# Altium schematic symbol library kmilo17pet-NSC_LDO.SchLib: 2675 symbols (part 21 of 65)
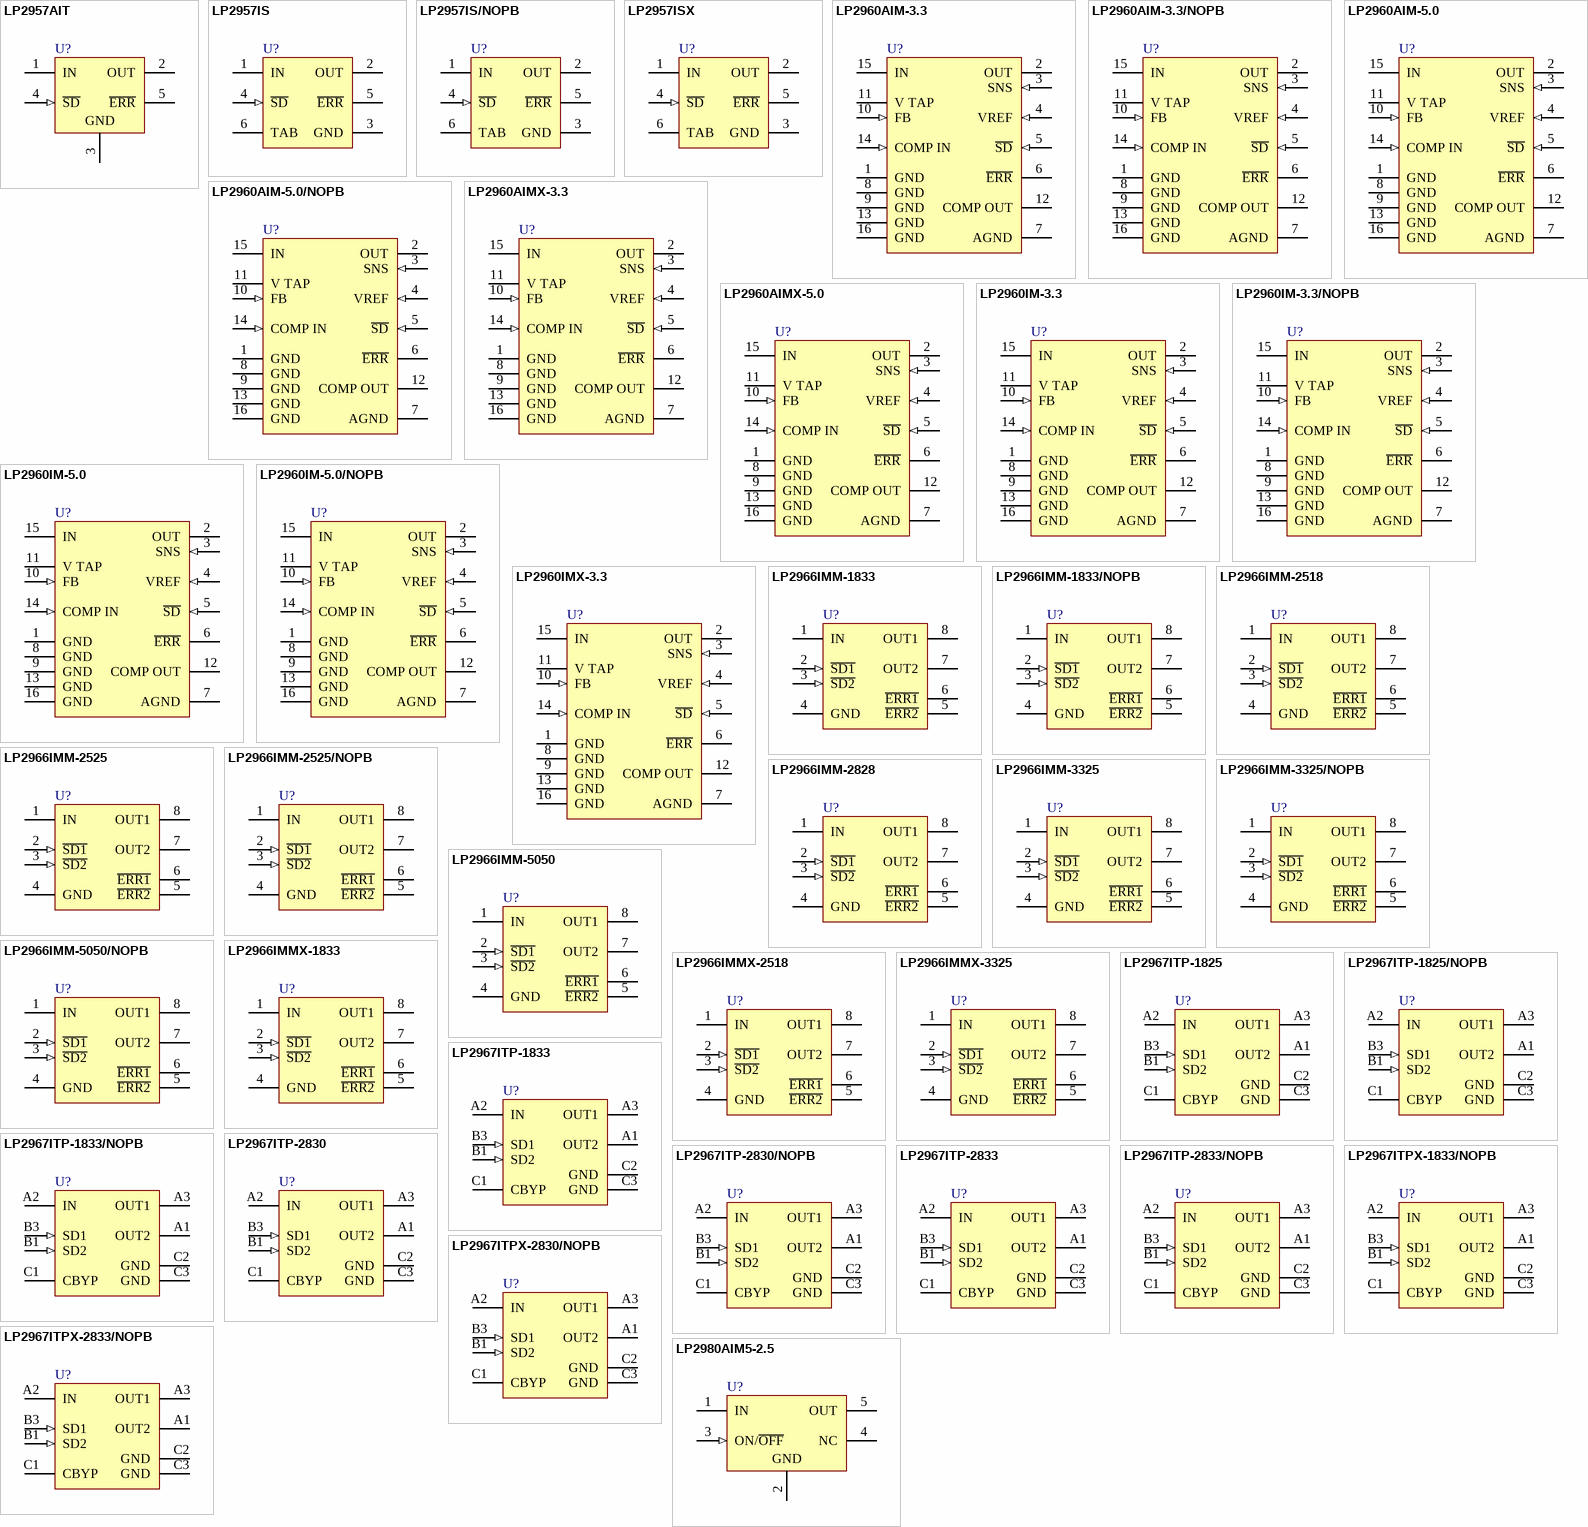
[diagram p87: symbols LP2957AIT to LP2980AIM5-2.5]

## LP2966IMM-2828
designator U?
Dual 150mA Ultra Low-Dropout Regulator, 8-pin Mini SOIC; PartNumber: LP2966IMM-2828; Manufacturer: National Semiconductor; PackageTopMarking: ZXTT*LABB; PowerWise: N; CompType: LDO IC; High-Reliability: Y; DatasheetVersion: Mar-2005; PackageVersion: revF, Apr-2008; PackageReference: MUA08A; PackageDescription: MINI SOIC, .118 x .118 x .034in, 8 Lead, .0256in Pitch; RoHS: N; PinCount: 8; Code_JEDEC: MO-187-AA; ComponentLink1Description: Manufacturer URL; ComponentLink1URL: http://www.national.com/; ComponentLink2Description: LP2966 Datasheet; ComponentLink2URL: http://www.national.com/ds/LP/LP2966.pdf; ComponentLink3Description: LP2966 Web Page; ComponentLink3URL: http://www.national.com/pf/LP/LP2966.html; ComponentLink4Description: MUA08A Package Page; ComponentLink4URL: http://www.national.com/packaging/folders/mua08a.html
footprint MUA08A_N (TSOP, 8-Leads, Body 3x3mm, Pitch 0.65mm, IPC Medium Density)
footprint MUA08A_L (TSOP, 8-Leads, Body 3x3mm, Pitch 0.65mm, IPC High Density)
footprint MUA08A_M (TSOP, 8-Leads, Body 3x3mm, Pitch 0.65mm, IPC Low Density)
pins: 1 IN (power), 2 ~{SD1} (in), 3 ~{SD2} (in), 4 GND (power), 5 ~{ERR2} (oc), 6 ~{ERR1} (oc), 7 OUT2 (power), 8 OUT1 (power)

## LP2966IMM-3325
designator U?
Dual 150mA Ultra Low-Dropout Regulator, 8-pin Mini SOIC; PartNumber: LP2966IMM-3325; Manufacturer: National Semiconductor; PackageTopMarking: ZXTT*LARB; PowerWise: N; CompType: LDO IC; High-Reliability: Y; DatasheetVersion: Mar-2005; PackageVersion: revF, Apr-2008; PackageReference: MUA08A; PackageDescription: MINI SOIC, .118 x .118 x .034in, 8 Lead, .0256in Pitch; RoHS: N; PinCount: 8; Code_JEDEC: MO-187-AA; ComponentLink1Description: Manufacturer URL; ComponentLink1URL: http://www.national.com/; ComponentLink2Description: LP2966 Datasheet; ComponentLink2URL: http://www.national.com/ds/LP/LP2966.pdf; ComponentLink3Description: LP2966 Web Page; ComponentLink3URL: http://www.national.com/pf/LP/LP2966.html; ComponentLink4Description: MUA08A Package Page; ComponentLink4URL: http://www.national.com/packaging/folders/mua08a.html
footprint MUA08A_N (TSOP, 8-Leads, Body 3x3mm, Pitch 0.65mm, IPC Medium Density)
footprint MUA08A_L (TSOP, 8-Leads, Body 3x3mm, Pitch 0.65mm, IPC High Density)
footprint MUA08A_M (TSOP, 8-Leads, Body 3x3mm, Pitch 0.65mm, IPC Low Density)
pins: 1 IN (power), 2 ~{SD1} (in), 3 ~{SD2} (in), 4 GND (power), 5 ~{ERR2} (oc), 6 ~{ERR1} (oc), 7 OUT2 (power), 8 OUT1 (power)

## LP2966IMM-3325/NOPB
designator U?
Dual 150mA Ultra Low-Dropout Regulator, 8-pin Mini SOIC, Pb-Free; PartNumber: LP2966IMM-3325/NOPB; Manufacturer: National Semiconductor; PackageTopMarking: ZXTT*LARB; PowerWise: N; CompType: LDO IC; High-Reliability: Y; DatasheetVersion: Mar-2005; PackageVersion: revF, Apr-2008; PackageReference: MUA08A; PackageDescription: MINI SOIC, .118 x .118 x .034in, 8 Lead, .0256in Pitch; RoHS: Y; PinCount: 8; Code_JEDEC: MO-187-AA; ComponentLink1Description: Manufacturer URL; ComponentLink1URL: http://www.national.com/; ComponentLink2Description: LP2966 Datasheet; ComponentLink2URL: http://www.national.com/ds/LP/LP2966.pdf; ComponentLink3Description: LP2966 Web Page; ComponentLink3URL: http://www.national.com/pf/LP/LP2966.html; ComponentLink4Description: MUA08A Package Page; ComponentLink4URL: http://www.national.com/packaging/folders/mua08a.html
footprint MUA08A_N (TSOP, 8-Leads, Body 3x3mm, Pitch 0.65mm, IPC Medium Density)
footprint MUA08A_L (TSOP, 8-Leads, Body 3x3mm, Pitch 0.65mm, IPC High Density)
footprint MUA08A_M (TSOP, 8-Leads, Body 3x3mm, Pitch 0.65mm, IPC Low Density)
pins: 1 IN (power), 2 ~{SD1} (in), 3 ~{SD2} (in), 4 GND (power), 5 ~{ERR2} (oc), 6 ~{ERR1} (oc), 7 OUT2 (power), 8 OUT1 (power)

## LP2966IMM-5050
designator U?
Dual 150mA Ultra Low-Dropout Regulator, 8-pin Mini SOIC; PartNumber: LP2966IMM-5050; Manufacturer: National Semiconductor; PackageTopMarking: ZXTT*LAFB; PowerWise: N; CompType: LDO IC; High-Reliability: Y; DatasheetVersion: Mar-2005; PackageVersion: revF, Apr-2008; PackageReference: MUA08A; PackageDescription: MINI SOIC, .118 x .118 x .034in, 8 Lead, .0256in Pitch; RoHS: N; PinCount: 8; Code_JEDEC: MO-187-AA; ComponentLink1Description: Manufacturer URL; ComponentLink1URL: http://www.national.com/; ComponentLink2Description: LP2966 Datasheet; ComponentLink2URL: http://www.national.com/ds/LP/LP2966.pdf; ComponentLink3Description: LP2966 Web Page; ComponentLink3URL: http://www.national.com/pf/LP/LP2966.html; ComponentLink4Description: MUA08A Package Page; ComponentLink4URL: http://www.national.com/packaging/folders/mua08a.html
footprint MUA08A_N (TSOP, 8-Leads, Body 3x3mm, Pitch 0.65mm, IPC Medium Density)
footprint MUA08A_L (TSOP, 8-Leads, Body 3x3mm, Pitch 0.65mm, IPC High Density)
footprint MUA08A_M (TSOP, 8-Leads, Body 3x3mm, Pitch 0.65mm, IPC Low Density)
pins: 1 IN (power), 2 ~{SD1} (in), 3 ~{SD2} (in), 4 GND (power), 5 ~{ERR2} (oc), 6 ~{ERR1} (oc), 7 OUT2 (power), 8 OUT1 (power)

## LP2966IMM-5050/NOPB
designator U?
Dual 150mA Ultra Low-Dropout Regulator, 8-pin Mini SOIC, Pb-Free; PartNumber: LP2966IMM-5050/NOPB; Manufacturer: National Semiconductor; PackageTopMarking: ZXTT*LAFB; PowerWise: N; CompType: LDO IC; High-Reliability: Y; DatasheetVersion: Mar-2005; PackageVersion: revF, Apr-2008; PackageReference: MUA08A; PackageDescription: MINI SOIC, .118 x .118 x .034in, 8 Lead, .0256in Pitch; RoHS: Y; PinCount: 8; Code_JEDEC: MO-187-AA; ComponentLink1Description: Manufacturer URL; ComponentLink1URL: http://www.national.com/; ComponentLink2Description: LP2966 Datasheet; ComponentLink2URL: http://www.national.com/ds/LP/LP2966.pdf; ComponentLink3Description: LP2966 Web Page; ComponentLink3URL: http://www.national.com/pf/LP/LP2966.html; ComponentLink4Description: MUA08A Package Page; ComponentLink4URL: http://www.national.com/packaging/folders/mua08a.html
footprint MUA08A_N (TSOP, 8-Leads, Body 3x3mm, Pitch 0.65mm, IPC Medium Density)
footprint MUA08A_L (TSOP, 8-Leads, Body 3x3mm, Pitch 0.65mm, IPC High Density)
footprint MUA08A_M (TSOP, 8-Leads, Body 3x3mm, Pitch 0.65mm, IPC Low Density)
pins: 1 IN (power), 2 ~{SD1} (in), 3 ~{SD2} (in), 4 GND (power), 5 ~{ERR2} (oc), 6 ~{ERR1} (oc), 7 OUT2 (power), 8 OUT1 (power)

## LP2966IMMX-1833
designator U?
Dual 150mA Ultra Low-Dropout Regulator, 8-pin Mini SOIC; PartNumber: LP2966IMMX-1833; Manufacturer: National Semiconductor; PackageTopMarking: ZXTT*LCFB; PowerWise: N; CompType: LDO IC; High-Reliability: Y; DatasheetVersion: Mar-2005; PackageVersion: revF, Apr-2008; PackageReference: MUA08A; PackageDescription: MINI SOIC, .118 x .118 x .034in, 8 Lead, .0256in Pitch; RoHS: N; PinCount: 8; Code_JEDEC: MO-187-AA; ComponentLink1Description: Manufacturer URL; ComponentLink1URL: http://www.national.com/; ComponentLink2Description: LP2966 Datasheet; ComponentLink2URL: http://www.national.com/ds/LP/LP2966.pdf; ComponentLink3Description: LP2966 Web Page; ComponentLink3URL: http://www.national.com/pf/LP/LP2966.html; ComponentLink4Description: MUA08A Package Page; ComponentLink4URL: http://www.national.com/packaging/folders/mua08a.html
footprint MUA08A_N (TSOP, 8-Leads, Body 3x3mm, Pitch 0.65mm, IPC Medium Density)
footprint MUA08A_L (TSOP, 8-Leads, Body 3x3mm, Pitch 0.65mm, IPC High Density)
footprint MUA08A_M (TSOP, 8-Leads, Body 3x3mm, Pitch 0.65mm, IPC Low Density)
pins: 1 IN (power), 2 ~{SD1} (in), 3 ~{SD2} (in), 4 GND (power), 5 ~{ERR2} (oc), 6 ~{ERR1} (oc), 7 OUT2 (power), 8 OUT1 (power)

## LP2966IMMX-2518
designator U?
Dual 150mA Ultra Low-Dropout Regulator, 8-pin Mini SOIC; PartNumber: LP2966IMMX-2518; Manufacturer: National Semiconductor; PackageTopMarking: ZXTT*LJKB; PowerWise: N; CompType: LDO IC; High-Reliability: Y; DatasheetVersion: Mar-2005; PackageVersion: revF, Apr-2008; PackageReference: MUA08A; PackageDescription: MINI SOIC, .118 x .118 x .034in, 8 Lead, .0256in Pitch; RoHS: N; PinCount: 8; Code_JEDEC: MO-187-AA; ComponentLink1Description: Manufacturer URL; ComponentLink1URL: http://www.national.com/; ComponentLink2Description: LP2966 Datasheet; ComponentLink2URL: http://www.national.com/ds/LP/LP2966.pdf; ComponentLink3Description: LP2966 Web Page; ComponentLink3URL: http://www.national.com/pf/LP/LP2966.html; ComponentLink4Description: MUA08A Package Page; ComponentLink4URL: http://www.national.com/packaging/folders/mua08a.html
footprint MUA08A_N (TSOP, 8-Leads, Body 3x3mm, Pitch 0.65mm, IPC Medium Density)
footprint MUA08A_L (TSOP, 8-Leads, Body 3x3mm, Pitch 0.65mm, IPC High Density)
footprint MUA08A_M (TSOP, 8-Leads, Body 3x3mm, Pitch 0.65mm, IPC Low Density)
pins: 1 IN (power), 2 ~{SD1} (in), 3 ~{SD2} (in), 4 GND (power), 5 ~{ERR2} (oc), 6 ~{ERR1} (oc), 7 OUT2 (power), 8 OUT1 (power)

## LP2966IMMX-3325
designator U?
Dual 150mA Ultra Low-Dropout Regulator, 8-pin Mini SOIC; PartNumber: LP2966IMMX-3325; Manufacturer: National Semiconductor; PackageTopMarking: ZXTT*LARB; PowerWise: N; CompType: LDO IC; High-Reliability: Y; DatasheetVersion: Mar-2005; PackageVersion: revF, Apr-2008; PackageReference: MUA08A; PackageDescription: MINI SOIC, .118 x .118 x .034in, 8 Lead, .0256in Pitch; RoHS: N; PinCount: 8; Code_JEDEC: MO-187-AA; ComponentLink1Description: Manufacturer URL; ComponentLink1URL: http://www.national.com/; ComponentLink2Description: LP2966 Datasheet; ComponentLink2URL: http://www.national.com/ds/LP/LP2966.pdf; ComponentLink3Description: LP2966 Web Page; ComponentLink3URL: http://www.national.com/pf/LP/LP2966.html; ComponentLink4Description: MUA08A Package Page; ComponentLink4URL: http://www.national.com/packaging/folders/mua08a.html
footprint MUA08A_N (TSOP, 8-Leads, Body 3x3mm, Pitch 0.65mm, IPC Medium Density)
footprint MUA08A_L (TSOP, 8-Leads, Body 3x3mm, Pitch 0.65mm, IPC High Density)
footprint MUA08A_M (TSOP, 8-Leads, Body 3x3mm, Pitch 0.65mm, IPC Low Density)
pins: 1 IN (power), 2 ~{SD1} (in), 3 ~{SD2} (in), 4 GND (power), 5 ~{ERR2} (oc), 6 ~{ERR1} (oc), 7 OUT2 (power), 8 OUT1 (power)

## LP2967ITP-1825
designator U?
Dual Micropower 150 mA Low-Dropout Regulator, 8-pin Micro SMD; PartNumber: LP2967ITP-1825; Manufacturer: National Semiconductor; PackageTopMarking: XVL*I 07; PowerWise: N; CompType: LDO IC; High-Reliability: Y; DatasheetVersion: Jun-2005; PackageVersion: revA, Mar-2002; PackageReference: TPA08F5A; PackageDescription: Thin Micro SMD, 8 Bump, 0.5mm Pitch; RoHS: Y; PinCount: 8; Code_JEDEC: MO-211-BC; ComponentLink1Description: Manufacturer URL; ComponentLink1URL: http://www.national.com/; ComponentLink2Description: LP2967 Datasheet; ComponentLink2URL: http://www.national.com/ds/LP/LP2967.pdf; ComponentLink3Description: LP2967 Web Page; ComponentLink3URL: http://www.national.com/pf/LP/LP2967.html; ComponentLink4Description: TPA08F5A Package Page; ComponentLink4URL: http://www.national.com/packaging/folders/tpa08f5a.html
footprint TPA08F5A (Micro SMD, 8-Leads, Body 1.95x1.41mm, Pitch 0.5mm, NSC Recommended)
pins: A1 OUT2 (power), A2 IN (power), A3 OUT1 (power), B1 SD2 (in), B3 SD1 (in), C1 CBYP, C2 GND (power), C3 GND (power)

## LP2967ITP-1825/NOPB
designator U?
Dual Micropower 150 mA Low-Dropout Regulator, 8-pin Micro SMD, Pb-Free; PartNumber: LP2967ITP-1825/NOPB; Manufacturer: National Semiconductor; PackageTopMarking: XVL*I 07; PowerWise: N; CompType: LDO IC; High-Reliability: Y; DatasheetVersion: Jun-2005; PackageVersion: revA, Mar-2002; PackageReference: TPA08F5A; PackageDescription: Thin Micro SMD, 8 Bump, 0.5mm Pitch; RoHS: Y; PinCount: 8; Code_JEDEC: MO-211-BC; ComponentLink1Description: Manufacturer URL; ComponentLink1URL: http://www.national.com/; ComponentLink2Description: LP2967 Datasheet; ComponentLink2URL: http://www.national.com/ds/LP/LP2967.pdf; ComponentLink3Description: LP2967 Web Page; ComponentLink3URL: http://www.national.com/pf/LP/LP2967.html; ComponentLink4Description: TPA08F5A Package Page; ComponentLink4URL: http://www.national.com/packaging/folders/tpa08f5a.html
footprint TPA08F5A (Micro SMD, 8-Leads, Body 1.95x1.41mm, Pitch 0.5mm, NSC Recommended)
pins: A1 OUT2 (power), A2 IN (power), A3 OUT1 (power), B1 SD2 (in), B3 SD1 (in), C1 CBYP, C2 GND (power), C3 GND (power)

## LP2967ITP-1833
designator U?
Dual Micropower 150 mA Low-Dropout Regulator, 8-pin Micro SMD; PartNumber: LP2967ITP-1833; Manufacturer: National Semiconductor; PackageTopMarking: XVL*I 11; PowerWise: N; CompType: LDO IC; High-Reliability: Y; DatasheetVersion: Jun-2005; PackageVersion: revA, Mar-2002; PackageReference: TPA08F5A; PackageDescription: Thin Micro SMD, 8 Bump, 0.5mm Pitch; RoHS: Y; PinCount: 8; Code_JEDEC: MO-211-BC; ComponentLink1Description: Manufacturer URL; ComponentLink1URL: http://www.national.com/; ComponentLink2Description: LP2967 Datasheet; ComponentLink2URL: http://www.national.com/ds/LP/LP2967.pdf; ComponentLink3Description: LP2967 Web Page; ComponentLink3URL: http://www.national.com/pf/LP/LP2967.html; ComponentLink4Description: TPA08F5A Package Page; ComponentLink4URL: http://www.national.com/packaging/folders/tpa08f5a.html
footprint TPA08F5A (Micro SMD, 8-Leads, Body 1.95x1.41mm, Pitch 0.5mm, NSC Recommended)
pins: A1 OUT2 (power), A2 IN (power), A3 OUT1 (power), B1 SD2 (in), B3 SD1 (in), C1 CBYP, C2 GND (power), C3 GND (power)

## LP2967ITP-1833/NOPB
designator U?
Dual Micropower 150 mA Low-Dropout Regulator, 8-pin Micro SMD, Pb-Free; PartNumber: LP2967ITP-1833/NOPB; Manufacturer: National Semiconductor; PackageTopMarking: XVL*I 11; PowerWise: N; CompType: LDO IC; High-Reliability: Y; DatasheetVersion: Jun-2005; PackageVersion: revA, Mar-2002; PackageReference: TPA08F5A; PackageDescription: Thin Micro SMD, 8 Bump, 0.5mm Pitch; RoHS: Y; PinCount: 8; Code_JEDEC: MO-211-BC; ComponentLink1Description: Manufacturer URL; ComponentLink1URL: http://www.national.com/; ComponentLink2Description: LP2967 Datasheet; ComponentLink2URL: http://www.national.com/ds/LP/LP2967.pdf; ComponentLink3Description: LP2967 Web Page; ComponentLink3URL: http://www.national.com/pf/LP/LP2967.html; ComponentLink4Description: TPA08F5A Package Page; ComponentLink4URL: http://www.national.com/packaging/folders/tpa08f5a.html
footprint TPA08F5A (Micro SMD, 8-Leads, Body 1.95x1.41mm, Pitch 0.5mm, NSC Recommended)
pins: A1 OUT2 (power), A2 IN (power), A3 OUT1 (power), B1 SD2 (in), B3 SD1 (in), C1 CBYP, C2 GND (power), C3 GND (power)

## LP2967ITP-2830
designator U?
Dual Micropower 150 mA Low-Dropout Regulator, 8-pin Micro SMD; PartNumber: LP2967ITP-2830; Manufacturer: National Semiconductor; PackageTopMarking: XVL*I 22; PowerWise: N; CompType: LDO IC; High-Reliability: Y; DatasheetVersion: Jun-2005; PackageVersion: revA, Mar-2002; PackageReference: TPA08F5A; PackageDescription: Thin Micro SMD, 8 Bump, 0.5mm Pitch; RoHS: Y; PinCount: 8; Code_JEDEC: MO-211-BC; ComponentLink1Description: Manufacturer URL; ComponentLink1URL: http://www.national.com/; ComponentLink2Description: LP2967 Datasheet; ComponentLink2URL: http://www.national.com/ds/LP/LP2967.pdf; ComponentLink3Description: LP2967 Web Page; ComponentLink3URL: http://www.national.com/pf/LP/LP2967.html; ComponentLink4Description: TPA08F5A Package Page; ComponentLink4URL: http://www.national.com/packaging/folders/tpa08f5a.html
footprint TPA08F5A (Micro SMD, 8-Leads, Body 1.95x1.41mm, Pitch 0.5mm, NSC Recommended)
pins: A1 OUT2 (power), A2 IN (power), A3 OUT1 (power), B1 SD2 (in), B3 SD1 (in), C1 CBYP, C2 GND (power), C3 GND (power)

## LP2967ITP-2830/NOPB
designator U?
Dual Micropower 150 mA Low-Dropout Regulator, 8-pin Micro SMD, Pb-Free; PartNumber: LP2967ITP-2830/NOPB; Manufacturer: National Semiconductor; PackageTopMarking: XVL*I 22; PowerWise: N; CompType: LDO IC; High-Reliability: Y; DatasheetVersion: Jun-2005; PackageVersion: revA, Mar-2002; PackageReference: TPA08F5A; PackageDescription: Thin Micro SMD, 8 Bump, 0.5mm Pitch; RoHS: Y; PinCount: 8; Code_JEDEC: MO-211-BC; ComponentLink1Description: Manufacturer URL; ComponentLink1URL: http://www.national.com/; ComponentLink2Description: LP2967 Datasheet; ComponentLink2URL: http://www.national.com/ds/LP/LP2967.pdf; ComponentLink3Description: LP2967 Web Page; ComponentLink3URL: http://www.national.com/pf/LP/LP2967.html; ComponentLink4Description: TPA08F5A Package Page; ComponentLink4URL: http://www.national.com/packaging/folders/tpa08f5a.html
footprint TPA08F5A (Micro SMD, 8-Leads, Body 1.95x1.41mm, Pitch 0.5mm, NSC Recommended)
pins: A1 OUT2 (power), A2 IN (power), A3 OUT1 (power), B1 SD2 (in), B3 SD1 (in), C1 CBYP, C2 GND (power), C3 GND (power)

## LP2967ITP-2833
designator U?
Dual Micropower 150 mA Low-Dropout Regulator, 8-pin Micro SMD; PartNumber: LP2967ITP-2833; Manufacturer: National Semiconductor; PackageTopMarking: XVL*I 09; PowerWise: N; CompType: LDO IC; High-Reliability: Y; DatasheetVersion: Jun-2005; PackageVersion: revA, Mar-2002; PackageReference: TPA08F5A; PackageDescription: Thin Micro SMD, 8 Bump, 0.5mm Pitch; RoHS: Y; PinCount: 8; Code_JEDEC: MO-211-BC; ComponentLink1Description: Manufacturer URL; ComponentLink1URL: http://www.national.com/; ComponentLink2Description: LP2967 Datasheet; ComponentLink2URL: http://www.national.com/ds/LP/LP2967.pdf; ComponentLink3Description: LP2967 Web Page; ComponentLink3URL: http://www.national.com/pf/LP/LP2967.html; ComponentLink4Description: TPA08F5A Package Page; ComponentLink4URL: http://www.national.com/packaging/folders/tpa08f5a.html
footprint TPA08F5A (Micro SMD, 8-Leads, Body 1.95x1.41mm, Pitch 0.5mm, NSC Recommended)
pins: A1 OUT2 (power), A2 IN (power), A3 OUT1 (power), B1 SD2 (in), B3 SD1 (in), C1 CBYP, C2 GND (power), C3 GND (power)

## LP2967ITP-2833/NOPB
designator U?
Dual Micropower 150 mA Low-Dropout Regulator, 8-pin Micro SMD, Pb-Free; PartNumber: LP2967ITP-2833/NOPB; Manufacturer: National Semiconductor; PackageTopMarking: XVL*I 09; PowerWise: N; CompType: LDO IC; High-Reliability: Y; DatasheetVersion: Jun-2005; PackageVersion: revA, Mar-2002; PackageReference: TPA08F5A; PackageDescription: Thin Micro SMD, 8 Bump, 0.5mm Pitch; RoHS: Y; PinCount: 8; Code_JEDEC: MO-211-BC; ComponentLink1Description: Manufacturer URL; ComponentLink1URL: http://www.national.com/; ComponentLink2Description: LP2967 Datasheet; ComponentLink2URL: http://www.national.com/ds/LP/LP2967.pdf; ComponentLink3Description: LP2967 Web Page; ComponentLink3URL: http://www.national.com/pf/LP/LP2967.html; ComponentLink4Description: TPA08F5A Package Page; ComponentLink4URL: http://www.national.com/packaging/folders/tpa08f5a.html
footprint TPA08F5A (Micro SMD, 8-Leads, Body 1.95x1.41mm, Pitch 0.5mm, NSC Recommended)
pins: A1 OUT2 (power), A2 IN (power), A3 OUT1 (power), B1 SD2 (in), B3 SD1 (in), C1 CBYP, C2 GND (power), C3 GND (power)

## LP2967ITPX-1833/NOPB
designator U?
Dual Micropower 150 mA Low-Dropout Regulator, 8-pin Micro SMD, Pb-Free; PartNumber: LP2967ITPX-1833/NOPB; Manufacturer: National Semiconductor; PackageTopMarking: XVL*I 11; PowerWise: N; CompType: LDO IC; High-Reliability: Y; DatasheetVersion: Jun-2005; PackageVersion: revA, Mar-2002; PackageReference: TPA08F5A; PackageDescription: Thin Micro SMD, 8 Bump, 0.5mm Pitch; RoHS: Y; PinCount: 8; Code_JEDEC: MO-211-BC; ComponentLink1Description: Manufacturer URL; ComponentLink1URL: http://www.national.com/; ComponentLink2Description: LP2967 Datasheet; ComponentLink2URL: http://www.national.com/ds/LP/LP2967.pdf; ComponentLink3Description: LP2967 Web Page; ComponentLink3URL: http://www.national.com/pf/LP/LP2967.html; ComponentLink4Description: TPA08F5A Package Page; ComponentLink4URL: http://www.national.com/packaging/folders/tpa08f5a.html
footprint TPA08F5A (Micro SMD, 8-Leads, Body 1.95x1.41mm, Pitch 0.5mm, NSC Recommended)
pins: A1 OUT2 (power), A2 IN (power), A3 OUT1 (power), B1 SD2 (in), B3 SD1 (in), C1 CBYP, C2 GND (power), C3 GND (power)

## LP2967ITPX-2830/NOPB
designator U?
Dual Micropower 150 mA Low-Dropout Regulator, 8-pin Micro SMD, Pb-Free; PartNumber: LP2967ITPX-2830/NOPB; Manufacturer: National Semiconductor; PackageTopMarking: XVL*I 22; PowerWise: N; CompType: LDO IC; High-Reliability: Y; DatasheetVersion: Jun-2005; PackageVersion: revA, Mar-2002; PackageReference: TPA08F5A; PackageDescription: Thin Micro SMD, 8 Bump, 0.5mm Pitch; RoHS: Y; PinCount: 8; Code_JEDEC: MO-211-BC; ComponentLink1Description: Manufacturer URL; ComponentLink1URL: http://www.national.com/; ComponentLink2Description: LP2967 Datasheet; ComponentLink2URL: http://www.national.com/ds/LP/LP2967.pdf; ComponentLink3Description: LP2967 Web Page; ComponentLink3URL: http://www.national.com/pf/LP/LP2967.html; ComponentLink4Description: TPA08F5A Package Page; ComponentLink4URL: http://www.national.com/packaging/folders/tpa08f5a.html
footprint TPA08F5A (Micro SMD, 8-Leads, Body 1.95x1.41mm, Pitch 0.5mm, NSC Recommended)
pins: A1 OUT2 (power), A2 IN (power), A3 OUT1 (power), B1 SD2 (in), B3 SD1 (in), C1 CBYP, C2 GND (power), C3 GND (power)

## LP2967ITPX-2833/NOPB
designator U?
Dual Micropower 150 mA Low-Dropout Regulator, 8-pin Micro SMD, Pb-Free; PartNumber: LP2967ITPX-2833/NOPB; Manufacturer: National Semiconductor; PackageTopMarking: XVL*I 09; PowerWise: N; CompType: LDO IC; High-Reliability: Y; DatasheetVersion: Jun-2005; PackageVersion: revA, Mar-2002; PackageReference: TPA08F5A; PackageDescription: Thin Micro SMD, 8 Bump, 0.5mm Pitch; RoHS: Y; PinCount: 8; Code_JEDEC: MO-211-BC; ComponentLink1Description: Manufacturer URL; ComponentLink1URL: http://www.national.com/; ComponentLink2Description: LP2967 Datasheet; ComponentLink2URL: http://www.national.com/ds/LP/LP2967.pdf; ComponentLink3Description: LP2967 Web Page; ComponentLink3URL: http://www.national.com/pf/LP/LP2967.html; ComponentLink4Description: TPA08F5A Package Page; ComponentLink4URL: http://www.national.com/packaging/folders/tpa08f5a.html
footprint TPA08F5A (Micro SMD, 8-Leads, Body 1.95x1.41mm, Pitch 0.5mm, NSC Recommended)
pins: A1 OUT2 (power), A2 IN (power), A3 OUT1 (power), B1 SD2 (in), B3 SD1 (in), C1 CBYP, C2 GND (power), C3 GND (power)

## LP2980AIM5-2.5
designator U?
Micropower 50 mA Ultra Low-Dropout Regulator, 5-pin SOT-23; PartNumber: LP2980AIM5-2.5; Manufacturer: National Semiconductor; PackageTopMarking: L0NA*XTT; PowerWise: N; CompType: LDO IC; High-Reliability: Y; DatasheetVersion: Sep-2006; PackageVersion: revD, Aug-2008; PackageReference: MF05A; PackageDescription: Molded SOT-23, .115 x .063 x .040 in Body, 5 Lead, .0375 in Pitch; RoHS: N; PinCount: 5; ComponentLink1Description: Manufacturer URL; ComponentLink1URL: http://www.national.com/; ComponentLink2Description: LP2980 Datasheet; ComponentLink2URL: http://www.national.com/ds/LP/LP2980.pdf; ComponentLink3Description: LP2980 Web Page; ComponentLink3URL: http://www.national.com/pf/LP/LP2980.html; ComponentLink4Description: MF05A Package Page; ComponentLink4URL: http://www.national.com/packaging/folders/mf05a.html
footprint MF05A_N (SOT23, 5-Leads, Body 2.9x1.6mm, Pitch 0.95mm, Lead Span 2.8mm, IPC Medium Density)
footprint MF05A_L (SOT23, 5-Leads, Body 2.9x1.6mm, Pitch 0.95mm, Lead Span 2.8mm, IPC High Density)
footprint MF05A_M (SOT23, 5-Leads, Body 2.9x1.6mm, Pitch 0.95mm, Lead Span 2.8mm, IPC Low Density)
pins: 1 IN (power), 2 GND (power), 3 ON/~{OFF} (in), 4 NC, 5 OUT (power)

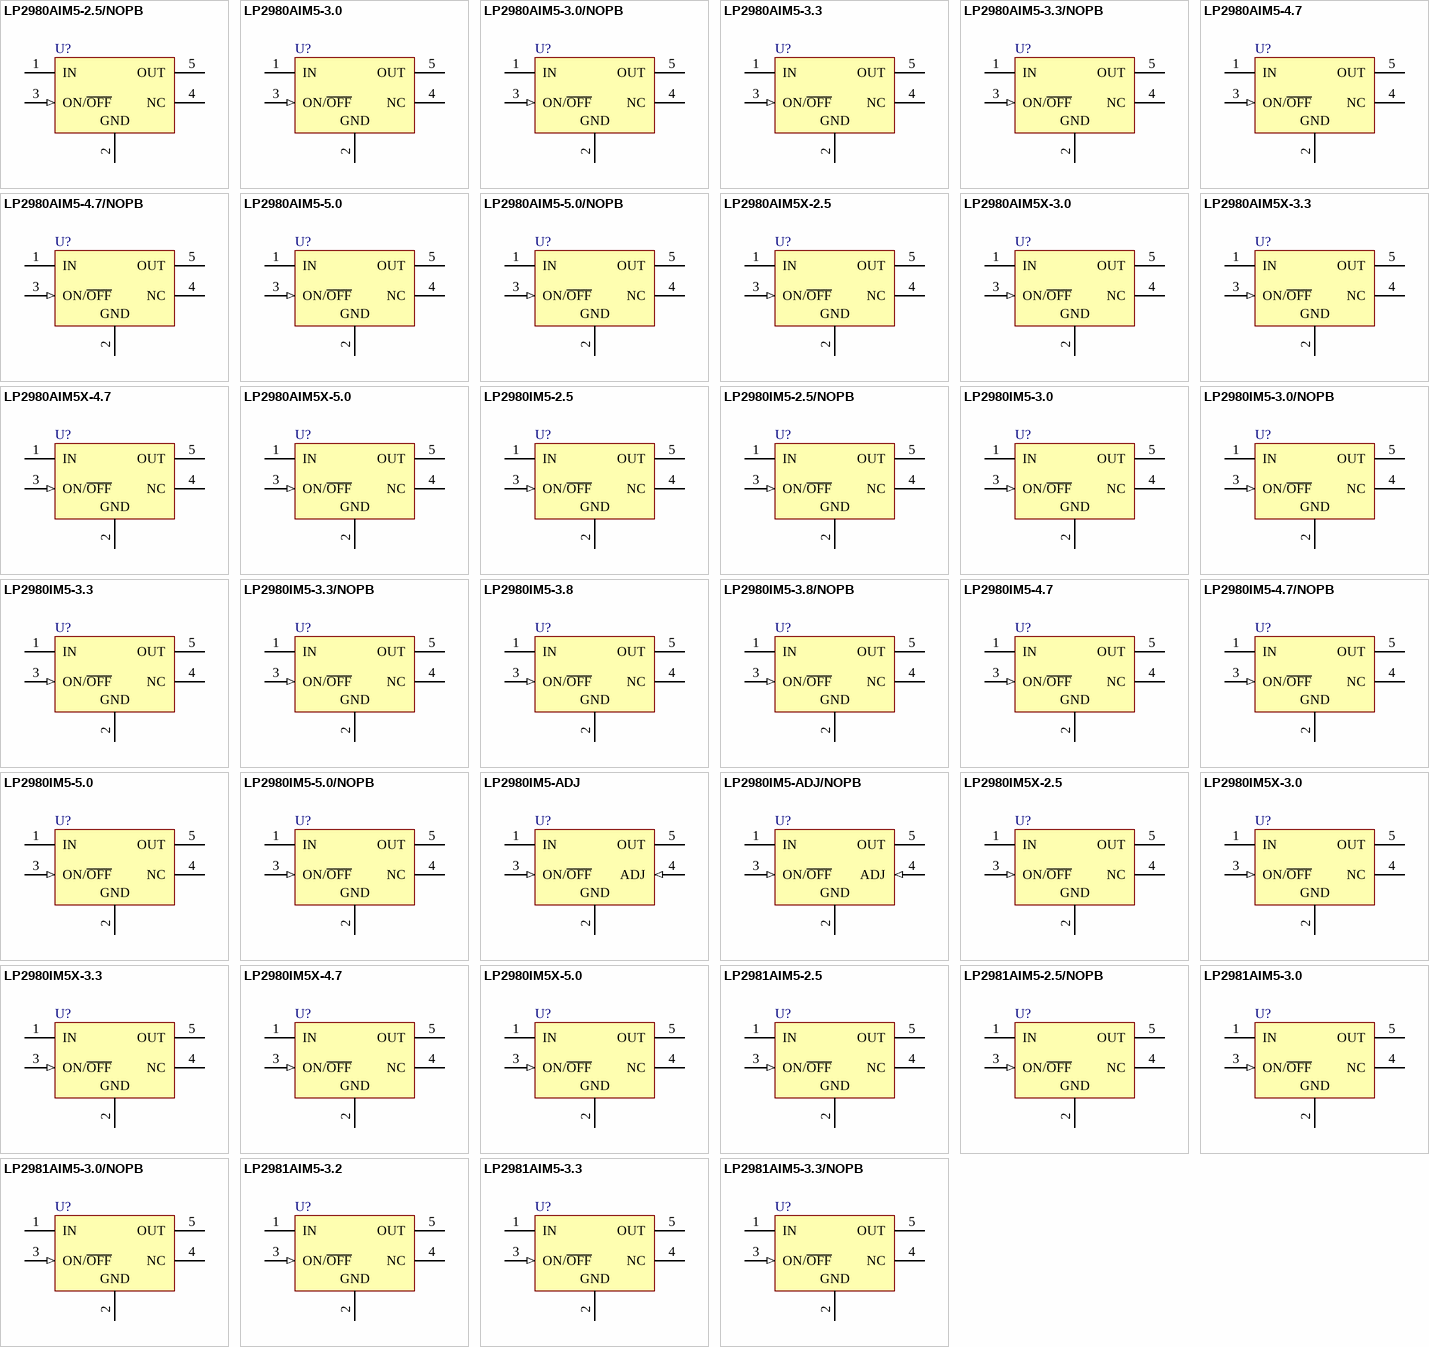
[diagram p22: symbols LP2980AIM5-2.5/NOPB to LP2981AIM5-3.3/NOPB]

## LP2980AIM5-2.5/NOPB
designator U?
Micropower 50 mA Ultra Low-Dropout Regulator, 5-pin SOT-23, Pb-Free; PartNumber: LP2980AIM5-2.5/NOPB; Manufacturer: National Semiconductor; PackageTopMarking: L0NA*XTT; PowerWise: N; CompType: LDO IC; High-Reliability: Y; DatasheetVersion: Sep-2006; PackageVersion: revD, Aug-2008; PackageReference: MF05A; PackageDescription: Molded SOT-23, .115 x .063 x .040 in Body, 5 Lead, .0375 in Pitch; RoHS: Y; PinCount: 5; ComponentLink1Description: Manufacturer URL; ComponentLink1URL: http://www.national.com/; ComponentLink2Description: LP2980 Datasheet; ComponentLink2URL: http://www.national.com/ds/LP/LP2980.pdf; ComponentLink3Description: LP2980 Web Page; ComponentLink3URL: http://www.national.com/pf/LP/LP2980.html; ComponentLink4Description: MF05A Package Page; ComponentLink4URL: http://www.national.com/packaging/folders/mf05a.html
footprint MF05A_N (SOT23, 5-Leads, Body 2.9x1.6mm, Pitch 0.95mm, Lead Span 2.8mm, IPC Medium Density)
footprint MF05A_L (SOT23, 5-Leads, Body 2.9x1.6mm, Pitch 0.95mm, Lead Span 2.8mm, IPC High Density)
footprint MF05A_M (SOT23, 5-Leads, Body 2.9x1.6mm, Pitch 0.95mm, Lead Span 2.8mm, IPC Low Density)
pins: 1 IN (power), 2 GND (power), 3 ON/~{OFF} (in), 4 NC, 5 OUT (power)

## LP2980AIM5-3.0
designator U?
Micropower 50 mA Ultra Low-Dropout Regulator, 5-pin SOT-23; PartNumber: LP2980AIM5-3.0; Manufacturer: National Semiconductor; PackageTopMarking: L02A*XTT; PowerWise: N; CompType: LDO IC; High-Reliability: Y; DatasheetVersion: Sep-2006; PackageVersion: revD, Aug-2008; PackageReference: MF05A; PackageDescription: Molded SOT-23, .115 x .063 x .040 in Body, 5 Lead, .0375 in Pitch; RoHS: N; PinCount: 5; ComponentLink1Description: Manufacturer URL; ComponentLink1URL: http://www.national.com/; ComponentLink2Description: LP2980 Datasheet; ComponentLink2URL: http://www.national.com/ds/LP/LP2980.pdf; ComponentLink3Description: LP2980 Web Page; ComponentLink3URL: http://www.national.com/pf/LP/LP2980.html; ComponentLink4Description: MF05A Package Page; ComponentLink4URL: http://www.national.com/packaging/folders/mf05a.html
footprint MF05A_N (SOT23, 5-Leads, Body 2.9x1.6mm, Pitch 0.95mm, Lead Span 2.8mm, IPC Medium Density)
footprint MF05A_L (SOT23, 5-Leads, Body 2.9x1.6mm, Pitch 0.95mm, Lead Span 2.8mm, IPC High Density)
footprint MF05A_M (SOT23, 5-Leads, Body 2.9x1.6mm, Pitch 0.95mm, Lead Span 2.8mm, IPC Low Density)
pins: 1 IN (power), 2 GND (power), 3 ON/~{OFF} (in), 4 NC, 5 OUT (power)

## LP2980AIM5-3.0/NOPB
designator U?
Micropower 50 mA Ultra Low-Dropout Regulator, 5-pin SOT-23, Pb-Free; PartNumber: LP2980AIM5-3.0/NOPB; Manufacturer: National Semiconductor; PackageTopMarking: L02A*XTT; PowerWise: N; CompType: LDO IC; High-Reliability: Y; DatasheetVersion: Sep-2006; PackageVersion: revD, Aug-2008; PackageReference: MF05A; PackageDescription: Molded SOT-23, .115 x .063 x .040 in Body, 5 Lead, .0375 in Pitch; RoHS: Y; PinCount: 5; ComponentLink1Description: Manufacturer URL; ComponentLink1URL: http://www.national.com/; ComponentLink2Description: LP2980 Datasheet; ComponentLink2URL: http://www.national.com/ds/LP/LP2980.pdf; ComponentLink3Description: LP2980 Web Page; ComponentLink3URL: http://www.national.com/pf/LP/LP2980.html; ComponentLink4Description: MF05A Package Page; ComponentLink4URL: http://www.national.com/packaging/folders/mf05a.html
footprint MF05A_N (SOT23, 5-Leads, Body 2.9x1.6mm, Pitch 0.95mm, Lead Span 2.8mm, IPC Medium Density)
footprint MF05A_L (SOT23, 5-Leads, Body 2.9x1.6mm, Pitch 0.95mm, Lead Span 2.8mm, IPC High Density)
footprint MF05A_M (SOT23, 5-Leads, Body 2.9x1.6mm, Pitch 0.95mm, Lead Span 2.8mm, IPC Low Density)
pins: 1 IN (power), 2 GND (power), 3 ON/~{OFF} (in), 4 NC, 5 OUT (power)

## LP2980AIM5-3.3
designator U?
Micropower 50 mA Ultra Low-Dropout Regulator, 5-pin SOT-23; PartNumber: LP2980AIM5-3.3; Manufacturer: National Semiconductor; PackageTopMarking: L00A*XTT; PowerWise: N; CompType: LDO IC; High-Reliability: Y; DatasheetVersion: Sep-2006; PackageVersion: revD, Aug-2008; PackageReference: MF05A; PackageDescription: Molded SOT-23, .115 x .063 x .040 in Body, 5 Lead, .0375 in Pitch; RoHS: N; PinCount: 5; ComponentLink1Description: Manufacturer URL; ComponentLink1URL: http://www.national.com/; ComponentLink2Description: LP2980 Datasheet; ComponentLink2URL: http://www.national.com/ds/LP/LP2980.pdf; ComponentLink3Description: LP2980 Web Page; ComponentLink3URL: http://www.national.com/pf/LP/LP2980.html; ComponentLink4Description: MF05A Package Page; ComponentLink4URL: http://www.national.com/packaging/folders/mf05a.html
footprint MF05A_N (SOT23, 5-Leads, Body 2.9x1.6mm, Pitch 0.95mm, Lead Span 2.8mm, IPC Medium Density)
footprint MF05A_L (SOT23, 5-Leads, Body 2.9x1.6mm, Pitch 0.95mm, Lead Span 2.8mm, IPC High Density)
footprint MF05A_M (SOT23, 5-Leads, Body 2.9x1.6mm, Pitch 0.95mm, Lead Span 2.8mm, IPC Low Density)
pins: 1 IN (power), 2 GND (power), 3 ON/~{OFF} (in), 4 NC, 5 OUT (power)

## LP2980AIM5-3.3/NOPB
designator U?
Micropower 50 mA Ultra Low-Dropout Regulator, 5-pin SOT-23, Pb-Free; PartNumber: LP2980AIM5-3.3/NOPB; Manufacturer: National Semiconductor; PackageTopMarking: L00A*XTT; PowerWise: N; CompType: LDO IC; High-Reliability: Y; DatasheetVersion: Sep-2006; PackageVersion: revD, Aug-2008; PackageReference: MF05A; PackageDescription: Molded SOT-23, .115 x .063 x .040 in Body, 5 Lead, .0375 in Pitch; RoHS: Y; PinCount: 5; ComponentLink1Description: Manufacturer URL; ComponentLink1URL: http://www.national.com/; ComponentLink2Description: LP2980 Datasheet; ComponentLink2URL: http://www.national.com/ds/LP/LP2980.pdf; ComponentLink3Description: LP2980 Web Page; ComponentLink3URL: http://www.national.com/pf/LP/LP2980.html; ComponentLink4Description: MF05A Package Page; ComponentLink4URL: http://www.national.com/packaging/folders/mf05a.html
footprint MF05A_N (SOT23, 5-Leads, Body 2.9x1.6mm, Pitch 0.95mm, Lead Span 2.8mm, IPC Medium Density)
footprint MF05A_L (SOT23, 5-Leads, Body 2.9x1.6mm, Pitch 0.95mm, Lead Span 2.8mm, IPC High Density)
footprint MF05A_M (SOT23, 5-Leads, Body 2.9x1.6mm, Pitch 0.95mm, Lead Span 2.8mm, IPC Low Density)
pins: 1 IN (power), 2 GND (power), 3 ON/~{OFF} (in), 4 NC, 5 OUT (power)

## LP2980AIM5-4.7
designator U?
Micropower 50 mA Ultra Low-Dropout Regulator, 5-pin SOT-23; PartNumber: LP2980AIM5-4.7; Manufacturer: National Semiconductor; PackageTopMarking: L37A*XTT; PowerWise: N; CompType: LDO IC; High-Reliability: Y; DatasheetVersion: Sep-2006; PackageVersion: revD, Aug-2008; PackageReference: MF05A; PackageDescription: Molded SOT-23, .115 x .063 x .040 in Body, 5 Lead, .0375 in Pitch; RoHS: N; PinCount: 5; ComponentLink1Description: Manufacturer URL; ComponentLink1URL: http://www.national.com/; ComponentLink2Description: LP2980 Datasheet; ComponentLink2URL: http://www.national.com/ds/LP/LP2980.pdf; ComponentLink3Description: LP2980 Web Page; ComponentLink3URL: http://www.national.com/pf/LP/LP2980.html; ComponentLink4Description: MF05A Package Page; ComponentLink4URL: http://www.national.com/packaging/folders/mf05a.html
footprint MF05A_N (SOT23, 5-Leads, Body 2.9x1.6mm, Pitch 0.95mm, Lead Span 2.8mm, IPC Medium Density)
footprint MF05A_L (SOT23, 5-Leads, Body 2.9x1.6mm, Pitch 0.95mm, Lead Span 2.8mm, IPC High Density)
footprint MF05A_M (SOT23, 5-Leads, Body 2.9x1.6mm, Pitch 0.95mm, Lead Span 2.8mm, IPC Low Density)
pins: 1 IN (power), 2 GND (power), 3 ON/~{OFF} (in), 4 NC, 5 OUT (power)

## LP2980AIM5-4.7/NOPB
designator U?
Micropower 50 mA Ultra Low-Dropout Regulator, 5-pin SOT-23, Pb-Free; PartNumber: LP2980AIM5-4.7/NOPB; Manufacturer: National Semiconductor; PackageTopMarking: L37A*XTT; PowerWise: N; CompType: LDO IC; High-Reliability: Y; DatasheetVersion: Sep-2006; PackageVersion: revD, Aug-2008; PackageReference: MF05A; PackageDescription: Molded SOT-23, .115 x .063 x .040 in Body, 5 Lead, .0375 in Pitch; RoHS: Y; PinCount: 5; ComponentLink1Description: Manufacturer URL; ComponentLink1URL: http://www.national.com/; ComponentLink2Description: LP2980 Datasheet; ComponentLink2URL: http://www.national.com/ds/LP/LP2980.pdf; ComponentLink3Description: LP2980 Web Page; ComponentLink3URL: http://www.national.com/pf/LP/LP2980.html; ComponentLink4Description: MF05A Package Page; ComponentLink4URL: http://www.national.com/packaging/folders/mf05a.html
footprint MF05A_N (SOT23, 5-Leads, Body 2.9x1.6mm, Pitch 0.95mm, Lead Span 2.8mm, IPC Medium Density)
footprint MF05A_L (SOT23, 5-Leads, Body 2.9x1.6mm, Pitch 0.95mm, Lead Span 2.8mm, IPC High Density)
footprint MF05A_M (SOT23, 5-Leads, Body 2.9x1.6mm, Pitch 0.95mm, Lead Span 2.8mm, IPC Low Density)
pins: 1 IN (power), 2 GND (power), 3 ON/~{OFF} (in), 4 NC, 5 OUT (power)

## LP2980AIM5-5.0
designator U?
Micropower 50 mA Ultra Low-Dropout Regulator, 5-pin SOT-23; PartNumber: LP2980AIM5-5.0; Manufacturer: National Semiconductor; PackageTopMarking: L01A*XTT; PowerWise: N; CompType: LDO IC; High-Reliability: Y; DatasheetVersion: Sep-2006; PackageVersion: revD, Aug-2008; PackageReference: MF05A; PackageDescription: Molded SOT-23, .115 x .063 x .040 in Body, 5 Lead, .0375 in Pitch; RoHS: N; PinCount: 5; ComponentLink1Description: Manufacturer URL; ComponentLink1URL: http://www.national.com/; ComponentLink2Description: LP2980 Datasheet; ComponentLink2URL: http://www.national.com/ds/LP/LP2980.pdf; ComponentLink3Description: LP2980 Web Page; ComponentLink3URL: http://www.national.com/pf/LP/LP2980.html; ComponentLink4Description: MF05A Package Page; ComponentLink4URL: http://www.national.com/packaging/folders/mf05a.html
footprint MF05A_N (SOT23, 5-Leads, Body 2.9x1.6mm, Pitch 0.95mm, Lead Span 2.8mm, IPC Medium Density)
footprint MF05A_L (SOT23, 5-Leads, Body 2.9x1.6mm, Pitch 0.95mm, Lead Span 2.8mm, IPC High Density)
footprint MF05A_M (SOT23, 5-Leads, Body 2.9x1.6mm, Pitch 0.95mm, Lead Span 2.8mm, IPC Low Density)
pins: 1 IN (power), 2 GND (power), 3 ON/~{OFF} (in), 4 NC, 5 OUT (power)

## LP2980AIM5-5.0/NOPB
designator U?
Micropower 50 mA Ultra Low-Dropout Regulator, 5-pin SOT-23, Pb-Free; PartNumber: LP2980AIM5-5.0/NOPB; Manufacturer: National Semiconductor; PackageTopMarking: L01A*XTT; PowerWise: N; CompType: LDO IC; High-Reliability: Y; DatasheetVersion: Sep-2006; PackageVersion: revD, Aug-2008; PackageReference: MF05A; PackageDescription: Molded SOT-23, .115 x .063 x .040 in Body, 5 Lead, .0375 in Pitch; RoHS: Y; PinCount: 5; ComponentLink1Description: Manufacturer URL; ComponentLink1URL: http://www.national.com/; ComponentLink2Description: LP2980 Datasheet; ComponentLink2URL: http://www.national.com/ds/LP/LP2980.pdf; ComponentLink3Description: LP2980 Web Page; ComponentLink3URL: http://www.national.com/pf/LP/LP2980.html; ComponentLink4Description: MF05A Package Page; ComponentLink4URL: http://www.national.com/packaging/folders/mf05a.html
footprint MF05A_N (SOT23, 5-Leads, Body 2.9x1.6mm, Pitch 0.95mm, Lead Span 2.8mm, IPC Medium Density)
footprint MF05A_L (SOT23, 5-Leads, Body 2.9x1.6mm, Pitch 0.95mm, Lead Span 2.8mm, IPC High Density)
footprint MF05A_M (SOT23, 5-Leads, Body 2.9x1.6mm, Pitch 0.95mm, Lead Span 2.8mm, IPC Low Density)
pins: 1 IN (power), 2 GND (power), 3 ON/~{OFF} (in), 4 NC, 5 OUT (power)

## LP2980AIM5X-2.5
designator U?
Micropower 50 mA Ultra Low-Dropout Regulator, 5-pin SOT-23; PartNumber: LP2980AIM5X-2.5; Manufacturer: National Semiconductor; PackageTopMarking: L0NA*XTT; PowerWise: N; CompType: LDO IC; High-Reliability: Y; DatasheetVersion: Sep-2006; PackageVersion: revD, Aug-2008; PackageReference: MF05A; PackageDescription: Molded SOT-23, .115 x .063 x .040 in Body, 5 Lead, .0375 in Pitch; RoHS: N; PinCount: 5; ComponentLink1Description: Manufacturer URL; ComponentLink1URL: http://www.national.com/; ComponentLink2Description: LP2980 Datasheet; ComponentLink2URL: http://www.national.com/ds/LP/LP2980.pdf; ComponentLink3Description: LP2980 Web Page; ComponentLink3URL: http://www.national.com/pf/LP/LP2980.html; ComponentLink4Description: MF05A Package Page; ComponentLink4URL: http://www.national.com/packaging/folders/mf05a.html
footprint MF05A_N (SOT23, 5-Leads, Body 2.9x1.6mm, Pitch 0.95mm, Lead Span 2.8mm, IPC Medium Density)
footprint MF05A_L (SOT23, 5-Leads, Body 2.9x1.6mm, Pitch 0.95mm, Lead Span 2.8mm, IPC High Density)
footprint MF05A_M (SOT23, 5-Leads, Body 2.9x1.6mm, Pitch 0.95mm, Lead Span 2.8mm, IPC Low Density)
pins: 1 IN (power), 2 GND (power), 3 ON/~{OFF} (in), 4 NC, 5 OUT (power)

## LP2980AIM5X-3.0
designator U?
Micropower 50 mA Ultra Low-Dropout Regulator, 5-pin SOT-23; PartNumber: LP2980AIM5X-3.0; Manufacturer: National Semiconductor; PackageTopMarking: L02A*XTT; PowerWise: N; CompType: LDO IC; High-Reliability: Y; DatasheetVersion: Sep-2006; PackageVersion: revD, Aug-2008; PackageReference: MF05A; PackageDescription: Molded SOT-23, .115 x .063 x .040 in Body, 5 Lead, .0375 in Pitch; RoHS: N; PinCount: 5; ComponentLink1Description: Manufacturer URL; ComponentLink1URL: http://www.national.com/; ComponentLink2Description: LP2980 Datasheet; ComponentLink2URL: http://www.national.com/ds/LP/LP2980.pdf; ComponentLink3Description: LP2980 Web Page; ComponentLink3URL: http://www.national.com/pf/LP/LP2980.html; ComponentLink4Description: MF05A Package Page; ComponentLink4URL: http://www.national.com/packaging/folders/mf05a.html
footprint MF05A_N (SOT23, 5-Leads, Body 2.9x1.6mm, Pitch 0.95mm, Lead Span 2.8mm, IPC Medium Density)
footprint MF05A_L (SOT23, 5-Leads, Body 2.9x1.6mm, Pitch 0.95mm, Lead Span 2.8mm, IPC High Density)
footprint MF05A_M (SOT23, 5-Leads, Body 2.9x1.6mm, Pitch 0.95mm, Lead Span 2.8mm, IPC Low Density)
pins: 1 IN (power), 2 GND (power), 3 ON/~{OFF} (in), 4 NC, 5 OUT (power)

## LP2980AIM5X-3.3
designator U?
Micropower 50 mA Ultra Low-Dropout Regulator, 5-pin SOT-23; PartNumber: LP2980AIM5X-3.3; Manufacturer: National Semiconductor; PackageTopMarking: L00A*XTT; PowerWise: N; CompType: LDO IC; High-Reliability: Y; DatasheetVersion: Sep-2006; PackageVersion: revD, Aug-2008; PackageReference: MF05A; PackageDescription: Molded SOT-23, .115 x .063 x .040 in Body, 5 Lead, .0375 in Pitch; RoHS: N; PinCount: 5; ComponentLink1Description: Manufacturer URL; ComponentLink1URL: http://www.national.com/; ComponentLink2Description: LP2980 Datasheet; ComponentLink2URL: http://www.national.com/ds/LP/LP2980.pdf; ComponentLink3Description: LP2980 Web Page; ComponentLink3URL: http://www.national.com/pf/LP/LP2980.html; ComponentLink4Description: MF05A Package Page; ComponentLink4URL: http://www.national.com/packaging/folders/mf05a.html
footprint MF05A_N (SOT23, 5-Leads, Body 2.9x1.6mm, Pitch 0.95mm, Lead Span 2.8mm, IPC Medium Density)
footprint MF05A_L (SOT23, 5-Leads, Body 2.9x1.6mm, Pitch 0.95mm, Lead Span 2.8mm, IPC High Density)
footprint MF05A_M (SOT23, 5-Leads, Body 2.9x1.6mm, Pitch 0.95mm, Lead Span 2.8mm, IPC Low Density)
pins: 1 IN (power), 2 GND (power), 3 ON/~{OFF} (in), 4 NC, 5 OUT (power)

## LP2980AIM5X-4.7
designator U?
Micropower 50 mA Ultra Low-Dropout Regulator, 5-pin SOT-23; PartNumber: LP2980AIM5X-4.7; Manufacturer: National Semiconductor; PackageTopMarking: L37A*XTT; PowerWise: N; CompType: LDO IC; High-Reliability: Y; DatasheetVersion: Sep-2006; PackageVersion: revD, Aug-2008; PackageReference: MF05A; PackageDescription: Molded SOT-23, .115 x .063 x .040 in Body, 5 Lead, .0375 in Pitch; RoHS: N; PinCount: 5; ComponentLink1Description: Manufacturer URL; ComponentLink1URL: http://www.national.com/; ComponentLink2Description: LP2980 Datasheet; ComponentLink2URL: http://www.national.com/ds/LP/LP2980.pdf; ComponentLink3Description: LP2980 Web Page; ComponentLink3URL: http://www.national.com/pf/LP/LP2980.html; ComponentLink4Description: MF05A Package Page; ComponentLink4URL: http://www.national.com/packaging/folders/mf05a.html
footprint MF05A_N (SOT23, 5-Leads, Body 2.9x1.6mm, Pitch 0.95mm, Lead Span 2.8mm, IPC Medium Density)
footprint MF05A_L (SOT23, 5-Leads, Body 2.9x1.6mm, Pitch 0.95mm, Lead Span 2.8mm, IPC High Density)
footprint MF05A_M (SOT23, 5-Leads, Body 2.9x1.6mm, Pitch 0.95mm, Lead Span 2.8mm, IPC Low Density)
pins: 1 IN (power), 2 GND (power), 3 ON/~{OFF} (in), 4 NC, 5 OUT (power)

## LP2980AIM5X-5.0
designator U?
Micropower 50 mA Ultra Low-Dropout Regulator, 5-pin SOT-23; PartNumber: LP2980AIM5X-5.0; Manufacturer: National Semiconductor; PackageTopMarking: L01A*XTT; PowerWise: N; CompType: LDO IC; High-Reliability: Y; DatasheetVersion: Sep-2006; PackageVersion: revD, Aug-2008; PackageReference: MF05A; PackageDescription: Molded SOT-23, .115 x .063 x .040 in Body, 5 Lead, .0375 in Pitch; RoHS: N; PinCount: 5; ComponentLink1Description: Manufacturer URL; ComponentLink1URL: http://www.national.com/; ComponentLink2Description: LP2980 Datasheet; ComponentLink2URL: http://www.national.com/ds/LP/LP2980.pdf; ComponentLink3Description: LP2980 Web Page; ComponentLink3URL: http://www.national.com/pf/LP/LP2980.html; ComponentLink4Description: MF05A Package Page; ComponentLink4URL: http://www.national.com/packaging/folders/mf05a.html
footprint MF05A_N (SOT23, 5-Leads, Body 2.9x1.6mm, Pitch 0.95mm, Lead Span 2.8mm, IPC Medium Density)
footprint MF05A_L (SOT23, 5-Leads, Body 2.9x1.6mm, Pitch 0.95mm, Lead Span 2.8mm, IPC High Density)
footprint MF05A_M (SOT23, 5-Leads, Body 2.9x1.6mm, Pitch 0.95mm, Lead Span 2.8mm, IPC Low Density)
pins: 1 IN (power), 2 GND (power), 3 ON/~{OFF} (in), 4 NC, 5 OUT (power)

## LP2980IM5-2.5
designator U?
Micropower 50 mA Ultra Low-Dropout Regulator, 5-pin SOT-23; PartNumber: LP2980IM5-2.5; Manufacturer: National Semiconductor; PackageTopMarking: L0NB*XTT; PowerWise: N; CompType: LDO IC; High-Reliability: Y; DatasheetVersion: Sep-2006; PackageVersion: revD, Aug-2008; PackageReference: MF05A; PackageDescription: Molded SOT-23, .115 x .063 x .040 in Body, 5 Lead, .0375 in Pitch; RoHS: N; PinCount: 5; ComponentLink1Description: Manufacturer URL; ComponentLink1URL: http://www.national.com/; ComponentLink2Description: LP2980 Datasheet; ComponentLink2URL: http://www.national.com/ds/LP/LP2980.pdf; ComponentLink3Description: LP2980 Web Page; ComponentLink3URL: http://www.national.com/pf/LP/LP2980.html; ComponentLink4Description: MF05A Package Page; ComponentLink4URL: http://www.national.com/packaging/folders/mf05a.html
footprint MF05A_N (SOT23, 5-Leads, Body 2.9x1.6mm, Pitch 0.95mm, Lead Span 2.8mm, IPC Medium Density)
footprint MF05A_L (SOT23, 5-Leads, Body 2.9x1.6mm, Pitch 0.95mm, Lead Span 2.8mm, IPC High Density)
footprint MF05A_M (SOT23, 5-Leads, Body 2.9x1.6mm, Pitch 0.95mm, Lead Span 2.8mm, IPC Low Density)
pins: 1 IN (power), 2 GND (power), 3 ON/~{OFF} (in), 4 NC, 5 OUT (power)

## LP2980IM5-2.5/NOPB
designator U?
Micropower 50 mA Ultra Low-Dropout Regulator, 5-pin SOT-23, Pb-Free; PartNumber: LP2980IM5-2.5/NOPB; Manufacturer: National Semiconductor; PackageTopMarking: L0NB*XTT; PowerWise: N; CompType: LDO IC; High-Reliability: Y; DatasheetVersion: Sep-2006; PackageVersion: revD, Aug-2008; PackageReference: MF05A; PackageDescription: Molded SOT-23, .115 x .063 x .040 in Body, 5 Lead, .0375 in Pitch; RoHS: Y; PinCount: 5; ComponentLink1Description: Manufacturer URL; ComponentLink1URL: http://www.national.com/; ComponentLink2Description: LP2980 Datasheet; ComponentLink2URL: http://www.national.com/ds/LP/LP2980.pdf; ComponentLink3Description: LP2980 Web Page; ComponentLink3URL: http://www.national.com/pf/LP/LP2980.html; ComponentLink4Description: MF05A Package Page; ComponentLink4URL: http://www.national.com/packaging/folders/mf05a.html
footprint MF05A_N (SOT23, 5-Leads, Body 2.9x1.6mm, Pitch 0.95mm, Lead Span 2.8mm, IPC Medium Density)
footprint MF05A_L (SOT23, 5-Leads, Body 2.9x1.6mm, Pitch 0.95mm, Lead Span 2.8mm, IPC High Density)
footprint MF05A_M (SOT23, 5-Leads, Body 2.9x1.6mm, Pitch 0.95mm, Lead Span 2.8mm, IPC Low Density)
pins: 1 IN (power), 2 GND (power), 3 ON/~{OFF} (in), 4 NC, 5 OUT (power)

## LP2980IM5-3.0
designator U?
Micropower 50 mA Ultra Low-Dropout Regulator, 5-pin SOT-23; PartNumber: LP2980IM5-3.0; Manufacturer: National Semiconductor; PackageTopMarking: L02B*XTT; PowerWise: N; CompType: LDO IC; High-Reliability: Y; DatasheetVersion: Sep-2006; PackageVersion: revD, Aug-2008; PackageReference: MF05A; PackageDescription: Molded SOT-23, .115 x .063 x .040 in Body, 5 Lead, .0375 in Pitch; RoHS: N; PinCount: 5; ComponentLink1Description: Manufacturer URL; ComponentLink1URL: http://www.national.com/; ComponentLink2Description: LP2980 Datasheet; ComponentLink2URL: http://www.national.com/ds/LP/LP2980.pdf; ComponentLink3Description: LP2980 Web Page; ComponentLink3URL: http://www.national.com/pf/LP/LP2980.html; ComponentLink4Description: MF05A Package Page; ComponentLink4URL: http://www.national.com/packaging/folders/mf05a.html
footprint MF05A_N (SOT23, 5-Leads, Body 2.9x1.6mm, Pitch 0.95mm, Lead Span 2.8mm, IPC Medium Density)
footprint MF05A_L (SOT23, 5-Leads, Body 2.9x1.6mm, Pitch 0.95mm, Lead Span 2.8mm, IPC High Density)
footprint MF05A_M (SOT23, 5-Leads, Body 2.9x1.6mm, Pitch 0.95mm, Lead Span 2.8mm, IPC Low Density)
pins: 1 IN (power), 2 GND (power), 3 ON/~{OFF} (in), 4 NC, 5 OUT (power)

## LP2980IM5-3.0/NOPB
designator U?
Micropower 50 mA Ultra Low-Dropout Regulator, 5-pin SOT-23, Pb-Free; PartNumber: LP2980IM5-3.0/NOPB; Manufacturer: National Semiconductor; PackageTopMarking: L02B*XTT; PowerWise: N; CompType: LDO IC; High-Reliability: Y; DatasheetVersion: Sep-2006; PackageVersion: revD, Aug-2008; PackageReference: MF05A; PackageDescription: Molded SOT-23, .115 x .063 x .040 in Body, 5 Lead, .0375 in Pitch; RoHS: Y; PinCount: 5; ComponentLink1Description: Manufacturer URL; ComponentLink1URL: http://www.national.com/; ComponentLink2Description: LP2980 Datasheet; ComponentLink2URL: http://www.national.com/ds/LP/LP2980.pdf; ComponentLink3Description: LP2980 Web Page; ComponentLink3URL: http://www.national.com/pf/LP/LP2980.html; ComponentLink4Description: MF05A Package Page; ComponentLink4URL: http://www.national.com/packaging/folders/mf05a.html
footprint MF05A_N (SOT23, 5-Leads, Body 2.9x1.6mm, Pitch 0.95mm, Lead Span 2.8mm, IPC Medium Density)
footprint MF05A_L (SOT23, 5-Leads, Body 2.9x1.6mm, Pitch 0.95mm, Lead Span 2.8mm, IPC High Density)
footprint MF05A_M (SOT23, 5-Leads, Body 2.9x1.6mm, Pitch 0.95mm, Lead Span 2.8mm, IPC Low Density)
pins: 1 IN (power), 2 GND (power), 3 ON/~{OFF} (in), 4 NC, 5 OUT (power)

## LP2980IM5-3.3
designator U?
Micropower 50 mA Ultra Low-Dropout Regulator, 5-pin SOT-23; PartNumber: LP2980IM5-3.3; Manufacturer: National Semiconductor; PackageTopMarking: L00B*XTT; PowerWise: N; CompType: LDO IC; High-Reliability: Y; DatasheetVersion: Sep-2006; PackageVersion: revD, Aug-2008; PackageReference: MF05A; PackageDescription: Molded SOT-23, .115 x .063 x .040 in Body, 5 Lead, .0375 in Pitch; RoHS: N; PinCount: 5; ComponentLink1Description: Manufacturer URL; ComponentLink1URL: http://www.national.com/; ComponentLink2Description: LP2980 Datasheet; ComponentLink2URL: http://www.national.com/ds/LP/LP2980.pdf; ComponentLink3Description: LP2980 Web Page; ComponentLink3URL: http://www.national.com/pf/LP/LP2980.html; ComponentLink4Description: MF05A Package Page; ComponentLink4URL: http://www.national.com/packaging/folders/mf05a.html
footprint MF05A_N (SOT23, 5-Leads, Body 2.9x1.6mm, Pitch 0.95mm, Lead Span 2.8mm, IPC Medium Density)
footprint MF05A_L (SOT23, 5-Leads, Body 2.9x1.6mm, Pitch 0.95mm, Lead Span 2.8mm, IPC High Density)
footprint MF05A_M (SOT23, 5-Leads, Body 2.9x1.6mm, Pitch 0.95mm, Lead Span 2.8mm, IPC Low Density)
pins: 1 IN (power), 2 GND (power), 3 ON/~{OFF} (in), 4 NC, 5 OUT (power)

## LP2980IM5-3.3/NOPB
designator U?
Micropower 50 mA Ultra Low-Dropout Regulator, 5-pin SOT-23, Pb-Free; PartNumber: LP2980IM5-3.3/NOPB; Manufacturer: National Semiconductor; PackageTopMarking: L00B*XTT; PowerWise: N; CompType: LDO IC; High-Reliability: Y; DatasheetVersion: Sep-2006; PackageVersion: revD, Aug-2008; PackageReference: MF05A; PackageDescription: Molded SOT-23, .115 x .063 x .040 in Body, 5 Lead, .0375 in Pitch; RoHS: Y; PinCount: 5; ComponentLink1Description: Manufacturer URL; ComponentLink1URL: http://www.national.com/; ComponentLink2Description: LP2980 Datasheet; ComponentLink2URL: http://www.national.com/ds/LP/LP2980.pdf; ComponentLink3Description: LP2980 Web Page; ComponentLink3URL: http://www.national.com/pf/LP/LP2980.html; ComponentLink4Description: MF05A Package Page; ComponentLink4URL: http://www.national.com/packaging/folders/mf05a.html
footprint MF05A_N (SOT23, 5-Leads, Body 2.9x1.6mm, Pitch 0.95mm, Lead Span 2.8mm, IPC Medium Density)
footprint MF05A_L (SOT23, 5-Leads, Body 2.9x1.6mm, Pitch 0.95mm, Lead Span 2.8mm, IPC High Density)
footprint MF05A_M (SOT23, 5-Leads, Body 2.9x1.6mm, Pitch 0.95mm, Lead Span 2.8mm, IPC Low Density)
pins: 1 IN (power), 2 GND (power), 3 ON/~{OFF} (in), 4 NC, 5 OUT (power)

## LP2980IM5-3.8
designator U?
Micropower 50 mA Ultra Low-Dropout Regulator, 5-pin SOT-23; PartNumber: LP2980IM5-3.8; Manufacturer: National Semiconductor; PackageTopMarking: L21B*XTT; PowerWise: N; CompType: LDO IC; High-Reliability: Y; DatasheetVersion: Sep-2006; PackageVersion: revD, Aug-2008; PackageReference: MF05A; PackageDescription: Molded SOT-23, .115 x .063 x .040 in Body, 5 Lead, .0375 in Pitch; RoHS: N; PinCount: 5; ComponentLink1Description: Manufacturer URL; ComponentLink1URL: http://www.national.com/; ComponentLink2Description: LP2980 Datasheet; ComponentLink2URL: http://www.national.com/ds/LP/LP2980.pdf; ComponentLink3Description: LP2980 Web Page; ComponentLink3URL: http://www.national.com/pf/LP/LP2980.html; ComponentLink4Description: MF05A Package Page; ComponentLink4URL: http://www.national.com/packaging/folders/mf05a.html
footprint MF05A_N (SOT23, 5-Leads, Body 2.9x1.6mm, Pitch 0.95mm, Lead Span 2.8mm, IPC Medium Density)
footprint MF05A_L (SOT23, 5-Leads, Body 2.9x1.6mm, Pitch 0.95mm, Lead Span 2.8mm, IPC High Density)
footprint MF05A_M (SOT23, 5-Leads, Body 2.9x1.6mm, Pitch 0.95mm, Lead Span 2.8mm, IPC Low Density)
pins: 1 IN (power), 2 GND (power), 3 ON/~{OFF} (in), 4 NC, 5 OUT (power)